# Altium schematic symbol library Schlib1.SchLib: 5 symbols
Pins are listed as number, name and electrical type; pins without a type are passive.

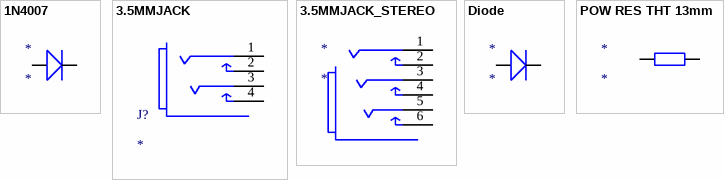
[diagram p0: symbols 1N4007 to POW RES THT 13mm]

## 1N4007
designator *
footprint 1N4007
pins: 1, 2

## 3.5MMJACK
designator J?
footprint 3.5MMJACK
pins: 1 S, 2 SN, 3 T, 4 TN

## 3.5MMJACK_STEREO
designator *
footprint 3.5MMJACK_STEREO
pins: 1 S, 2 SN, 3 S, 4 SN, 5 T, 6 TN

## Diode
designator *
footprint Diode 1A
pins: 1, 2

## POW RES THT 13mm
designator *
footprint POW RES THT 13mm
pins: 1, 2